# Altium footprint library Pcblib_20110825.Pcblib: 408 footprints (part 24 of 26)
Each footprint in its own frame and in the unit in brackets; x right, y up, seen from the top. Pads: shape width x height; smd on the part's side, far side on the other; paste and mask are expansions set on the pad; w line width, h text height; cw(c..) or ccw(c..) is an arc to the next point about the centre after c.
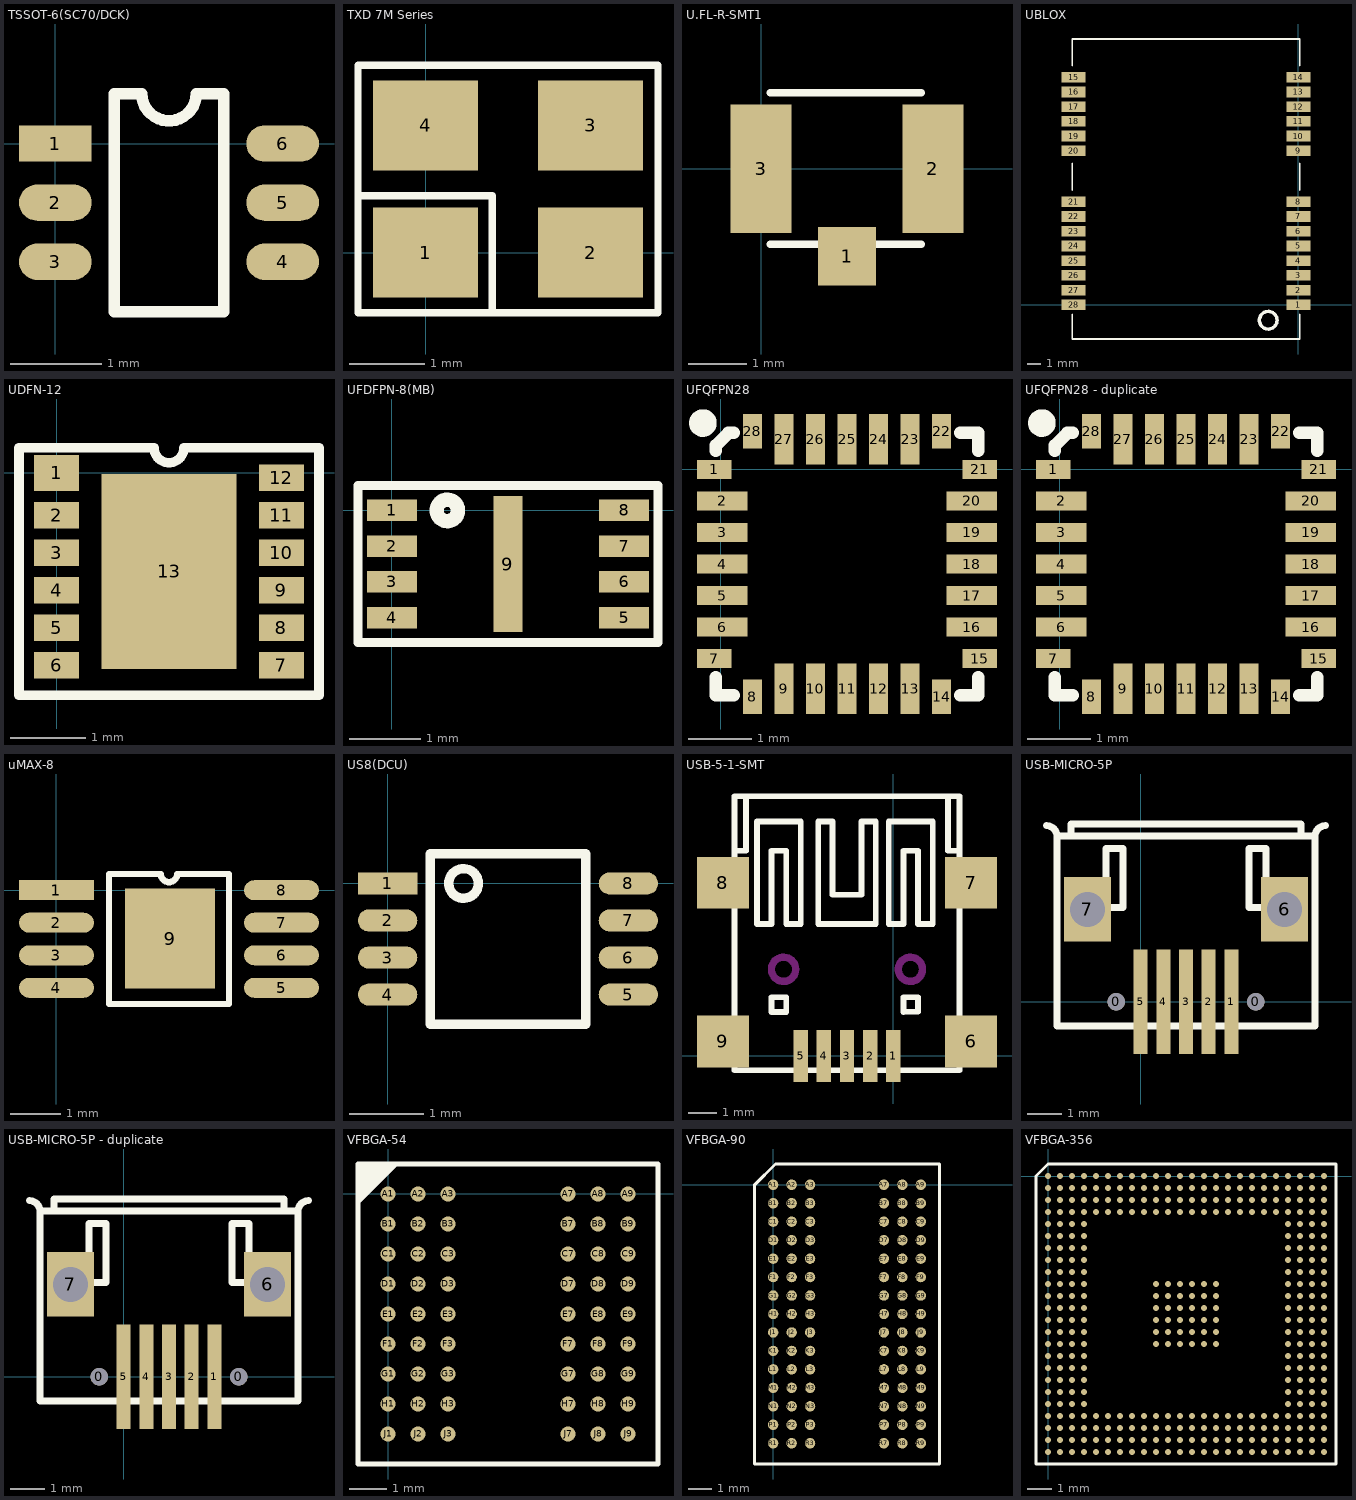
[diagram p23: the footprints below, top view; thin cyan lines are the x and y axes]

## TSSOT-6(SC70/DCK) [mm]
pads (6):
  rect 0.8x0.4 smd: 1(0,0)
  oval 0.8x0.4 smd: 2(0,-0.65) 3(0,-1.3) 4(2.5,-1.3) 5(2.5,-0.65) 6(2.5,0)
TopOverlay:
  lines w0.127: 0.65,-1.85 1.85,-1.85 1.85,0.55 1.55,0.55 cw(c1.25,0.55) 0.95,0.55 0.65,0.55 0.65,-1.85

## TXD 7M Series [mm]
height 0.8
pads (4):
  rect 1.4x1.2 smd: 1(0,0) 2(2.2,0) 3(2.2,1.7) 4(0,1.7)
TopOverlay:
  lines w0.1: -0.889,0.762 0.889,0.762 0.889,-0.8 ; -0.9,-0.8 3.1,-0.8 3.1,2.5 -0.9,2.5 -0.9,-0.8

## U.FL-R-SMT1 [mm]
pads (3):
  rect 1x1 smd: 1(1.475,-1.5)
  rect 1.05x2.2 smd: 2(2.95,0) 3(0,0)
TopOverlay:
  lines w0.127: 0.152,-1.295 2.752,-1.295 ; 0.152,1.305 2.752,1.305

## UBLOX [mm]
pads (28):
  rect 1.8x0.8 smd: 1(0,0) 2(0,1.1) 3(0,2.2) 4(0,3.3) 5(0,4.4) 6(0,5.5) 7(0,6.6) 8(0,7.7) 9(0,11.5) 10(0,12.6) 11(0,13.7) 12(0,14.8) 13(0,15.9) 14(0,17) 15(-16.8,17) 16(-16.8,15.9) 17(-16.8,14.8) 18(-16.8,13.7) 19(-16.8,12.6) 20(-16.8,11.5) 21(-16.8,7.7) 22(-16.8,6.6) 23(-16.8,5.5) 24(-16.8,4.4) 25(-16.8,3.3) 26(-16.8,2.2) 27(-16.8,1.1) 28(-16.8,0)
TopOverlay:
  circle w0.254: c-2.26,-1.15 r0.66
  lines w0.127: -16.9,-0.7 -16.9,-2.55 0.1,-2.55 0.1,-0.7 ; -16.9,8.55 -16.9,10.55 ; -16.9,17.85 -16.9,19.85 0.1,19.85 0.1,17.85 ; 0.1,8.55 0.1,10.55

## UDFN-12 [mm]
pads (13):
  rect 0.6x0.48 smd: 1(0,0)
  rect 0.6x0.35 smd: 2(0,-0.565) 3(0,-1.065) 4(0,-1.565) 5(0,-2.065) 6(0,-2.565) 7(3,-2.565) 8(3,-2.065) 9(3,-1.565) 10(3,-1.065) 11(3,-0.565) 12(3,-0.065)
  rect 1.8x2.6 smd: 13(1.5,-1.315)
TopOverlay:
  lines w0.127: -0.5,-2.965 -0.5,0.335 1.3,0.335 ccw(c1.5,0.335) 1.7,0.335 3.5,0.335 3.5,-2.965 -0.5,-2.965

## UFDFPN-8(MB) [mm]
pads (9):
  rect 0.7x0.3 smd: 1(0,0) 2(0,-0.5) 3(0,-1) 4(0,-1.5) 5(3.25,-1.5) 6(3.25,-1) 7(3.25,-0.5) 8(3.25,0)
  rect 0.4x1.9 smd: 9(1.625,-0.75)
TopOverlay:
  circle w0.2: c0.775,0 r0.15
  lines w0.127: -0.475,-1.85 -0.475,0.35 3.725,0.35 3.725,-1.85 -0.475,-1.85

## UFQFPN28 [mm]
pads (28):
  rect 0.55x0.3 smd: 1(-0.1,0) 7(-0.1,-3) 15(4.11,-3) 21(4.11,0)
  rect 0.8x0.3 smd: 2(0.025,-0.5) 3(0.025,-1) 4(0.025,-1.5) 5(0.025,-2) 6(0.025,-2.5) 16(3.985,-2.5) 17(3.985,-2) 18(3.985,-1.5) 19(3.985,-1) 20(3.985,-0.5)
  rect 0.3x0.55 smd: 8(0.505,-3.605) 14(3.505,-3.605) 22(3.505,0.605) 28(0.505,0.605)
  rect 0.3x0.8 smd: 9(1.005,-3.48) 10(1.505,-3.48) 11(2.005,-3.48) 12(2.505,-3.48) 13(3.005,-3.48) 23(3.005,0.48) 24(2.505,0.48) 25(2.005,0.48) 26(1.505,0.48) 27(1.005,0.48)
TopOverlay:
  circle w0.254: c-0.281,0.737 r0.092
  lines w0.2: -0.075,-3.3 -0.075,-3.58 0.205,-3.58 ; -0.075,0.3 -0.075,0.38 0.125,0.58 0.205,0.58 ; 3.805,-3.58 4.085,-3.58 4.085,-3.3 ; 3.805,0.58 4.085,0.58 4.085,0.3

## UFQFPN28 - duplicate [mm]
pads (28):
  rect 0.55x0.3 smd: 1(-0.1,0) 7(-0.1,-3) 15(4.11,-3) 21(4.11,0)
  rect 0.8x0.3 smd: 2(0.025,-0.5) 3(0.025,-1) 4(0.025,-1.5) 5(0.025,-2) 6(0.025,-2.5) 16(3.985,-2.5) 17(3.985,-2) 18(3.985,-1.5) 19(3.985,-1) 20(3.985,-0.5)
  rect 0.3x0.55 smd: 8(0.505,-3.605) 14(3.505,-3.605) 22(3.505,0.605) 28(0.505,0.605)
  rect 0.3x0.8 smd: 9(1.005,-3.48) 10(1.505,-3.48) 11(2.005,-3.48) 12(2.505,-3.48) 13(3.005,-3.48) 23(3.005,0.48) 24(2.505,0.48) 25(2.005,0.48) 26(1.505,0.48) 27(1.005,0.48)
TopOverlay:
  circle w0.254: c-0.281,0.737 r0.092
  lines w0.2: -0.075,-3.3 -0.075,-3.58 0.205,-3.58 ; -0.075,0.3 -0.075,0.38 0.125,0.58 0.205,0.58 ; 3.805,-3.58 4.085,-3.58 4.085,-3.3 ; 3.805,0.58 4.085,0.58 4.085,0.3

## uMAX-8 [mm]
pads (9):
  rect 1.5x0.4 smd: 1(0,0)
  oval 1.5x0.4 smd: 2(0,-0.65) 3(0,-1.3) 4(0,-1.95) 5(4.5,-1.95) 6(4.5,-1.3) 7(4.5,-0.65) 8(4.5,0)
  rect 1.8x2 smd: 9(2.271,-0.966)
TopOverlay:
  lines w0.127: 1.05,-2.275 1.05,0.325 2.088,0.325 ccw(c2.25,0.325) 2.412,0.325 3.45,0.325 3.45,-2.275 1.05,-2.275

## US8(DCU) [mm]
pads (8):
  rect 0.8x0.3 smd: 1(0,0)
  oval 0.8x0.3 smd: 2(0,-0.5) 3(0,-1) 4(0,-1.5) 5(3.25,-1.5) 6(3.25,-1) 7(3.25,-0.5) 8(3.25,0)
TopOverlay:
  circle w0.127: c1.025,0 r0.2
  lines w0.127: 0.575,-1.9 2.675,-1.9 2.675,0.4 0.575,0.4 0.575,-1.9

## USB-5-1-SMT [mm]
pads (9):
  rect 0.5x1.8 smd: 1(0,0) 2(-0.8,0) 3(-1.6,0) 4(-2.4,0) 5(-3.2,0)
  rect 1.8x1.8 smd: 6(2.7,0.5) 7(2.7,6) 8(-5.9,6) 9(-5.9,0.5)
TopOverlay:
  lines w0.2: -5.5,7.112 -5.1,7.112 -5.1,9 ; 1.9,9 1.9,7.112 2.3,7.112 ; -5.5,-0.5 2.3,-0.5 2.3,9 -5.5,9 -5.5,-0.5 ; -4.724,4.572 -4.216,4.572 -4.216,7.112 -3.708,7.112 -3.708,4.572 -3.2,4.572 -3.2,8.128 -4.724,8.128 -4.724,4.572 ; -4.216,1.524 -4.216,2.032 -3.708,2.032 -3.708,1.524 -4.216,1.524 ; -2.6,4.572 -2.6,8.128 -2.1,8.128 -2.1,5.588 -1.1,5.588 -1.1,8.128 -0.6,8.128 -0.6,4.572 -2.6,4.572 ; -0.152,4.572 0.356,4.572 0.356,7.112 0.864,7.112 0.864,4.572 1.372,4.572 1.372,8.128 -0.152,8.128 -0.152,4.572 ; 0.356,1.524 0.356,2.032 0.864,2.032 0.864,1.524 0.356,1.524
BottomOverlay:
  lines w0.2: -5.5,7.112 -5.1,7.112 -5.1,9 ; 1.9,9 1.9,7.112 2.3,7.112 ; -5.5,-0.5 2.3,-0.5 2.3,9 -5.5,9 -5.5,-0.5
KeepOutLayer:
  circle w0.254: c-3.8,3 r0.42
  circle w0.254: c0.6,3 r0.42

## USB-MICRO-5P [mm]
height 1
pads (9):
  round 0.5 hole 0.5 unplated: 0(-0.7,0) 0(3.3,0)
  rect 0.4x3 smd: 1(2.6,0) 2(1.95,0) 3(1.3,0) 4(0.65,0) 5(0,0)
  rect 1.35x1.85 hole 1: 6(4.125,2.65) 7(-1.525,2.65)
TopOverlay:
  lines w0.2: -2.7,5.05 cw(c-2.7,4.75) -2.4,4.75 5,4.75 cw(c5.3,4.75) 5.3,5.05 ; -2.4,4.8 -2.4,-0.7 5,-0.7 5,4.8 ; -2,4.75 -2,5.1 4.6,5.1 4.6,4.75 ; -1,2.7 -1,4.4 -0.5,4.4 -0.5,2.7 -1,2.7 ; 3.1,2.7 3.1,4.4 3.6,4.4 3.6,2.7 3.1,2.7
BottomOverlay:
  lines w0.2: -2.7,-0.7 -2.7,5.1 5.3,5.1 5.3,-0.7 -2.7,-0.7

## USB-MICRO-5P - duplicate [mm]
height 1
pads (9):
  round 0.5 hole 0.5 unplated: 0(-0.7,0) 0(3.3,0)
  rect 0.4x3 smd: 1(2.6,0) 2(1.95,0) 3(1.3,0) 4(0.65,0) 5(0,0)
  rect 1.35x1.85 hole 1: 6(4.125,2.65) 7(-1.525,2.65)
TopOverlay:
  lines w0.2: -2.7,5.05 cw(c-2.7,4.75) -2.4,4.75 5,4.75 cw(c5.3,4.75) 5.3,5.05 ; -2.4,4.8 -2.4,-0.7 5,-0.7 5,4.8 ; -2,4.75 -2,5.1 4.6,5.1 4.6,4.75 ; -1,2.7 -0.5,2.7 -0.5,4.4 -1,4.4 -1,2.7 ; 3.1,2.7 3.6,2.7 3.6,4.4 3.1,4.4 3.1,2.7
BottomOverlay:
  lines w0.2: -2.7,-0.7 5.3,-0.7 5.3,5.1 -2.7,5.1 -2.7,-0.7

## VFBGA-54 [mm]
pads (54):
  round 0.4 smd: A1(0,0) A2(0.8,0) A3(1.6,0) A7(4.8,0) A8(5.6,0) A9(6.4,0) B1(0,-0.8) B2(0.8,-0.8) B3(1.6,-0.8) B7(4.8,-0.8) B8(5.6,-0.8) B9(6.4,-0.8) C1(0,-1.6) C2(0.8,-1.6) C3(1.6,-1.6) C7(4.8,-1.6) C8(5.6,-1.6) C9(6.4,-1.6) D1(0,-2.4) D2(0.8,-2.4) D3(1.6,-2.4) D7(4.8,-2.4) D8(5.6,-2.4) D9(6.4,-2.4) E1(0,-3.2) E2(0.8,-3.2) E3(1.6,-3.2) E7(4.8,-3.2) E8(5.6,-3.2) E9(6.4,-3.2) F1(0,-4) F2(0.8,-4) F3(1.6,-4) F7(4.8,-4) F8(5.6,-4) F9(6.4,-4) G1(0,-4.8) G2(0.8,-4.8) G3(1.6,-4.8) G7(4.8,-4.8) G8(5.6,-4.8) G9(6.4,-4.8) H1(0,-5.6) H2(0.8,-5.6) H3(1.6,-5.6) H7(4.8,-5.6) H8(5.6,-5.6) H9(6.4,-5.6) J1(0,-6.4) J2(0.8,-6.4) J3(1.6,-6.4) J7(4.8,-6.4) J8(5.6,-6.4) J9(6.4,-6.4)
TopOverlay:
  lines w0.127: -0.8,-0.2 0.2,0.8 ; -0.8,-0.1 0.1,0.8 ; -0.8,0 0,0.8 ; -0.597,0.603 -0.794,0.8 -0.8,0.8 ; -0.5,0.8 -0.8,0.5 ; -0.4,0.8 -0.8,0.4 ; -0.3,0.8 -0.8,0.3 ; -0.2,0.8 -0.8,0.2 ; -0.1,0.8 -0.8,0.1 ; -0.8,0.1 -0.8,0.1 ; -0.8,0.2 -0.8,0.2 ; -0.8,0.3 -0.8,0.3 ; -0.8,0.4 -0.8,0.4 ; -0.8,0.5 -0.8,0.5 ; -0.8,0.8 -0.8,-7.2 7.2,-7.2 7.2,0.8 -0.8,0.8

## VFBGA-90 [mm]
pads (90):
  round 0.45 smd: A1(0,0) A2(0.8,0) A3(1.6,0) A7(4.8,0) A8(5.6,0) A9(6.4,0) B1(0,-0.8) B2(0.8,-0.8) B3(1.6,-0.8) B7(4.8,-0.8) B8(5.6,-0.8) B9(6.4,-0.8) C1(0,-1.6) C2(0.8,-1.6) C3(1.6,-1.6) C7(4.8,-1.6) C8(5.6,-1.6) C9(6.4,-1.6) D1(0,-2.4) D2(0.8,-2.4) D3(1.6,-2.4) D7(4.8,-2.4) D8(5.6,-2.4) D9(6.4,-2.4) E1(0,-3.2) E2(0.8,-3.2) E3(1.6,-3.2) E7(4.8,-3.2) E8(5.6,-3.2) E9(6.4,-3.2) F1(0,-4) F2(0.8,-4) F3(1.6,-4) F7(4.8,-4) F8(5.6,-4) F9(6.4,-4) G1(0,-4.8) G2(0.8,-4.8) G3(1.6,-4.8) G7(4.8,-4.8) G8(5.6,-4.8) G9(6.4,-4.8) H1(0,-5.6) H2(0.8,-5.6) H3(1.6,-5.6) H7(4.8,-5.6) H8(5.6,-5.6) H9(6.4,-5.6) J1(0,-6.4) J2(0.8,-6.4) J3(1.6,-6.4) J7(4.8,-6.4) J8(5.6,-6.4) J9(6.4,-6.4) K1(0,-7.2) K2(0.8,-7.2) K3(1.6,-7.2) K7(4.8,-7.2) K8(5.6,-7.2) K9(6.4,-7.2) L1(0,-8) L2(0.8,-8) L3(1.6,-8) L7(4.8,-8) L8(5.6,-8) L9(6.4,-8) M1(0,-8.8) M2(0.8,-8.8) M3(1.6,-8.8) M7(4.8,-8.8) M8(5.6,-8.8) M9(6.4,-8.8) N1(0,-9.6) N2(0.8,-9.6) N3(1.6,-9.6) N7(4.8,-9.6) N8(5.6,-9.6) N9(6.4,-9.6) P1(0,-10.4) P2(0.8,-10.4) P3(1.6,-10.4) P7(4.8,-10.4) P8(5.6,-10.4) P9(6.4,-10.4) R1(0,-11.2) R2(0.8,-11.2) R3(1.6,-11.2) R7(4.8,-11.2) R8(5.6,-11.2) R9(6.4,-11.2)
TopOverlay:
  lines w0.127: -0.8,-12.1 7.2,-12.1 7.2,0.9 0.1,0.9 -0.8,0 -0.8,-12.1

## VFBGA-356 [mm]
pads (356):
  round 0.24 smd mask+0.076: A1(0,0) A2(0.5,0) A3(1,0) A4(1.5,0) A5(2,0) A6(2.5,0) A7(3,0) A8(3.5,0) A9(4,0) A10(4.5,0) A11(5,0) A12(5.5,0) A13(6,0) A14(6.5,0) A15(7,0) A16(7.5,0) A17(8,0) A18(8.5,0) A19(9,0) A20(9.5,0) A21(10,0) A22(10.5,0) A23(11,0) A24(11.5,0) AA1(0,-10) AA2(0.5,-10) AA3(1,-10) AA4(1.5,-10) AA5(2,-10) AA6(2.5,-10) AA7(3,-10) AA8(3.5,-10) AA9(4,-10) AA10(4.5,-10) AA11(5,-10) AA12(5.5,-10) AA13(6,-10) AA14(6.5,-10) AA15(7,-10) AA16(7.5,-10) AA17(8,-10) AA18(8.5,-10) AA19(9,-10) AA20(9.5,-10) AA21(10,-10) AA22(10.5,-10) AA23(11,-10) AA24(11.5,-10) AB1(0,-10.5) AB2(0.5,-10.5) AB3(1,-10.5) AB4(1.5,-10.5) AB5(2,-10.5) AB6(2.5,-10.5) AB7(3,-10.5) AB8(3.5,-10.5) AB9(4,-10.5) AB10(4.5,-10.5) AB11(5,-10.5) AB12(5.5,-10.5) AB13(6,-10.5) AB14(6.5,-10.5) AB15(7,-10.5) AB16(7.5,-10.5) AB17(8,-10.5) AB18(8.5,-10.5) AB19(9,-10.5) AB20(9.5,-10.5) AB21(10,-10.5) AB22(10.5,-10.5) AB23(11,-10.5) AB24(11.5,-10.5) AC1(0,-11) AC2(0.5,-11) AC3(1,-11) AC4(1.5,-11) AC5(2,-11) AC6(2.5,-11) AC7(3,-11) AC8(3.5,-11) AC9(4,-11) AC10(4.5,-11) AC11(5,-11) AC12(5.5,-11) AC13(6,-11) AC14(6.5,-11) AC15(7,-11) AC16(7.5,-11) AC17(8,-11) AC18(8.5,-11) AC19(9,-11) AC20(9.5,-11) AC21(10,-11) AC22(10.5,-11) AC23(11,-11) AC24(11.5,-11) AD1(0,-11.5) AD2(0.5,-11.5) AD3(1,-11.5) AD4(1.5,-11.5) AD5(2,-11.5) AD6(2.5,-11.5) AD7(3,-11.5) AD8(3.5,-11.5) AD9(4,-11.5) AD10(4.5,-11.5) AD11(5,-11.5) AD12(5.5,-11.5) AD13(6,-11.5) AD14(6.5,-11.5) AD15(7,-11.5) AD16(7.5,-11.5) AD17(8,-11.5) AD18(8.5,-11.5) AD19(9,-11.5) AD20(9.5,-11.5) AD21(10,-11.5) AD22(10.5,-11.5) AD23(11,-11.5) AD24(11.5,-11.5) B1(0,-0.5) B2(0.5,-0.5) B3(1,-0.5) B4(1.5,-0.5) B5(2,-0.5) B6(2.5,-0.5) B7(3,-0.5) B8(3.5,-0.5) B9(4,-0.5) B10(4.5,-0.5) B11(5,-0.5) B12(5.5,-0.5) B13(6,-0.5) B14(6.5,-0.5) B15(7,-0.5) B16(7.5,-0.5) B17(8,-0.5) B18(8.5,-0.5) B19(9,-0.5) B20(9.5,-0.5) B21(10,-0.5) B22(10.5,-0.5) B23(11,-0.5) B24(11.5,-0.5) C1(0,-1) C2(0.5,-1) C3(1,-1) C4(1.5,-1) C5(2,-1) C6(2.5,-1) C7(3,-1) C8(3.5,-1) C9(4,-1) C10(4.5,-1) C11(5,-1) C12(5.5,-1) C13(6,-1) C14(6.5,-1) C15(7,-1) C16(7.5,-1) C17(8,-1) C18(8.5,-1) C19(9,-1) C20(9.5,-1) C21(10,-1) C22(10.5,-1) C23(11,-1) C24(11.5,-1) D1(0,-1.5) D2(0.5,-1.5) D3(1,-1.5) D4(1.5,-1.5) D5(2,-1.5) D6(2.5,-1.5) D7(3,-1.5) D8(3.5,-1.5) D9(4,-1.5) D10(4.5,-1.5) D11(5,-1.5) D12(5.5,-1.5) D13(6,-1.5) D14(6.5,-1.5) D15(7,-1.5) D16(7.5,-1.5) D17(8,-1.5) D18(8.5,-1.5) D19(9,-1.5) D20(9.5,-1.5) D21(10,-1.5) D22(10.5,-1.5) D23(11,-1.5) D24(11.5,-1.5) E1(0,-2) E2(0.5,-2) E3(1,-2) E4(1.5,-2) E21(10,-2) E22(10.5,-2) E23(11,-2) E24(11.5,-2) F1(0,-2.5) F2(0.5,-2.5) F3(1,-2.5) F4(1.5,-2.5) F21(10,-2.5) F22(10.5,-2.5) F23(11,-2.5) F24(11.5,-2.5) G1(0,-3) G2(0.5,-3) G3(1,-3) G4(1.5,-3) G21(10,-3) G22(10.5,-3) G23(11,-3) G24(11.5,-3) H1(0,-3.5) H2(0.5,-3.5) H3(1,-3.5) H4(1.5,-3.5) H21(10,-3.5) H22(10.5,-3.5) H23(11,-3.5) H24(11.5,-3.5) J1(0,-4) J2(0.5,-4) J3(1,-4) J4(1.5,-4) J21(10,-4) J22(10.5,-4) J23(11,-4) J24(11.5,-4) K1(0,-4.5) K2(0.5,-4.5) K3(1,-4.5) K4(1.5,-4.5) K10(4.5,-4.5) K11(5,-4.5) K12(5.5,-4.5) K13(6,-4.5) K14(6.5,-4.5) K15(7,-4.5) K21(10,-4.5) K22(10.5,-4.5) K23(11,-4.5) K24(11.5,-4.5) L1(0,-5) L2(0.5,-5) L3(1,-5) L4(1.5,-5) L10(4.5,-5) L11(5,-5) L12(5.5,-5) L13(6,-5) L14(6.5,-5) L15(7,-5) L21(10,-5) L22(10.5,-5) L23(11,-5) L24(11.5,-5) M1(0,-5.5) M2(0.5,-5.5) M3(1,-5.5) M4(1.5,-5.5) M10(4.5,-5.5) M11(5,-5.5) M12(5.5,-5.5) M13(6,-5.5) M14(6.5,-5.5) M15(7,-5.5) M21(10,-5.5) M22(10.5,-5.5) M23(11,-5.5) M24(11.5,-5.5) N1(0,-6) N2(0.5,-6) N3(1,-6) N4(1.5,-6) N10(4.5,-6) N11(5,-6) N12(5.5,-6) N13(6,-6) N14(6.5,-6) N15(7,-6) N21(10,-6) N22(10.5,-6) N23(11,-6) N24(11.5,-6) P1(0,-6.5) P2(0.5,-6.5) P3(1,-6.5) P4(1.5,-6.5) P10(4.5,-6.5) P11(5,-6.5) P12(5.5,-6.5) P13(6,-6.5) P14(6.5,-6.5) P15(7,-6.5) P21(10,-6.5) P22(10.5,-6.5) P23(11,-6.5) P24(11.5,-6.5) R1(0,-7) R2(0.5,-7) R3(1,-7) R4(1.5,-7) R10(4.5,-7) R11(5,-7) R12(5.5,-7) R13(6,-7) R14(6.5,-7) R15(7,-7) R21(10,-7) R22(10.5,-7) R23(11,-7) R24(11.5,-7) T1(0,-7.5) T2(0.5,-7.5) T3(1,-7.5) T4(1.5,-7.5) T21(10,-7.5) T22(10.5,-7.5) T23(11,-7.5) T24(11.5,-7.5) U1(0,-8) U2(0.5,-8) U3(1,-8) U4(1.5,-8) U21(10,-8) U22(10.5,-8) U23(11,-8) U24(11.5,-8) V1(0,-8.5) V2(0.5,-8.5) V3(1,-8.5) V4(1.5,-8.5) V21(10,-8.5) V22(10.5,-8.5) V23(11,-8.5) V24(11.5,-8.5) W1(0,-9) W2(0.5,-9) W3(1,-9) W4(1.5,-9) W21(10,-9) W22(10.5,-9) W23(11,-9) W24(11.5,-9) Y1(0,-9.5) Y2(0.5,-9.5) Y3(1,-9.5) Y4(1.5,-9.5) Y21(10,-9.5) Y22(10.5,-9.5) Y23(11,-9.5) Y24(11.5,-9.5)
TopOverlay:
  lines w0.127: -0.5,-12 12,-12 12,0.5 0,0.5 -0.5,0 -0.5,-12